# Altium footprint library SOT23-3.PcbLib: 1 footprints
Each footprint in its own frame and in the unit in brackets; x right, y up, seen from the top. Pads: shape width x height; smd on the part's side, far side on the other; paste and mask are expansions set on the pad; w line width, h text height; cw(c..) or ccw(c..) is an arc to the next point about the centre after c.
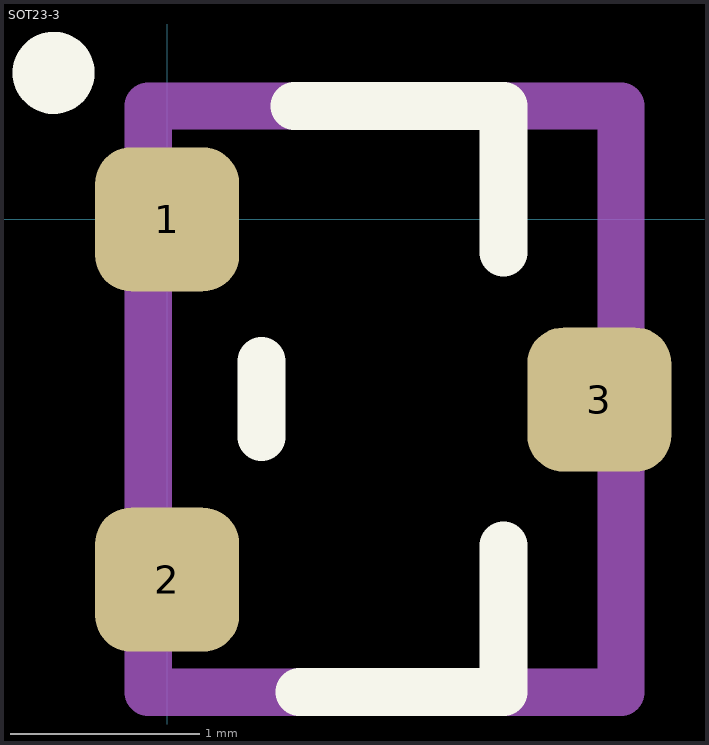
[diagram p0: the footprint, top view; thin cyan lines are the x and y axes]

## SOT23-3 [mil]
height 118.11
pads (3):
  rrect50% 30x30 smd: 1(0,0) 2(0,-75) 3(90,-37.5)
Top Overlay:
  circle w10: c-23.62,30.51 r3.55
  lines w10: 19.68,-45.28 19.68,-29.53 ; 26.57,23.62 70,23.62 70,-6.89 ; 27.56,-98.43 70,-98.43 70,-67.91
Mechanical 13 (Mech13):
  lines w9.84: -3.94,-98.43 94.49,-98.43 94.49,23.62 -3.94,23.62 -3.94,-98.43
  text ".Designator" at -1.97,74.8 h84.65
3D body "SOT-23.step": height 41.34, standoff -1.97, extent -4,-97 94.43,21.11